# EAGLE library part SN74LVC125ANSR (library SN74LVC125ANSR)
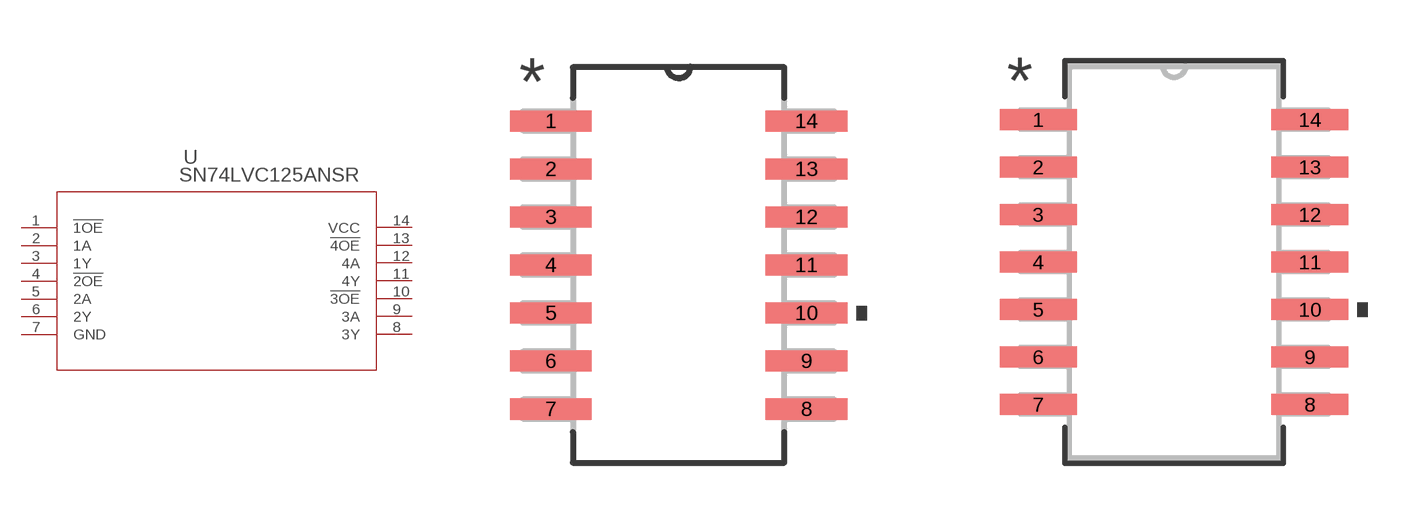
[diagram p0: symbol with the pads of NS14; footprints NS14, NS14-M]

Designator prefix U

## SN74LVC125ANSR (COPYRIGHT: Copyright (C) 2024 Ultra Librarian. All rights reserved.; MANUFACTURER_PART_NUMBER: SN74LVC125ANSR; MFR_NAME: Texas Instruments)  [NS14]
1  !1OE  in
2  1A  in
3  1Y  out
4  !2OE  in
5  2A  in
6  2Y  out
7  GND  pwr
8  3Y  out
9  3A  in
10  !3OE  in
11  4Y  out
12  4A  in
13  !4OE  in
14  VCC  pwr

## SN74LVC125ANSRNS14-M (COPYRIGHT: Copyright (C) 2024 Ultra Librarian. All rights reserved.; MANUFACTURER_PART_NUMBER: SN74LVC125ANSR; MFR_NAME: Texas Instruments)  [NS14-M]
Pads as for NS14

## SN74LVC125ANSRNS14-L (COPYRIGHT: Copyright (C) 2024 Ultra Librarian. All rights reserved.; MANUFACTURER_PART_NUMBER: SN74LVC125ANSR; MFR_NAME: Texas Instruments)  [NS14-L]
Pads as for NS14

## Footprint NS14 (pad centres in mm)
smd 2.159 x 0.559: 1 -3.378,3.81; 2 -3.378,2.54; 3 -3.378,1.27; 4 -3.378,0; 5 -3.378,-1.27; 6 -3.378,-2.54; 7 -3.378,-3.81; 8 3.378,-3.81; 9 3.378,-2.54; 10 3.378,-1.27; 11 3.378,0; 12 3.378,1.27; 13 3.378,2.54; 14 3.378,3.81

## Footprint NS14-M (pad centres in mm)
smd 2.057 x 0.559: 1 -3.632,3.81; 2 -3.632,2.54; 3 -3.632,1.27; 4 -3.632,0; 5 -3.632,-1.27; 6 -3.632,-2.54; 7 -3.632,-3.81; 8 3.632,-3.81; 9 3.632,-2.54; 10 3.632,-1.27; 11 3.632,0; 12 3.632,1.27; 13 3.632,2.54; 14 3.632,3.81

## Footprint NS14-L (pad centres in mm)
smd 1.448 x 0.508: 1 -3.531,3.81; 2 -3.531,2.54; 3 -3.531,1.27; 4 -3.531,0; 5 -3.531,-1.27; 6 -3.531,-2.54; 7 -3.531,-3.81; 8 3.531,-3.81; 9 3.531,-2.54; 10 3.531,-1.27; 11 3.531,0; 12 3.531,1.27; 13 3.531,2.54; 14 3.531,3.81